# Altium footprint library PCB - CONNECTOR - SAMTEC SS5-80-3.50-L-D-K-TR.PCBLIB: 1 footprints
Each footprint in its own frame and in the unit in brackets; x right, y up, seen from the top. Pads: shape width x height; smd on the part's side, far side on the other; paste and mask are expansions set on the pad; w line width, h text height; cw(c..) or ccw(c..) is an arc to the next point about the centre after c.
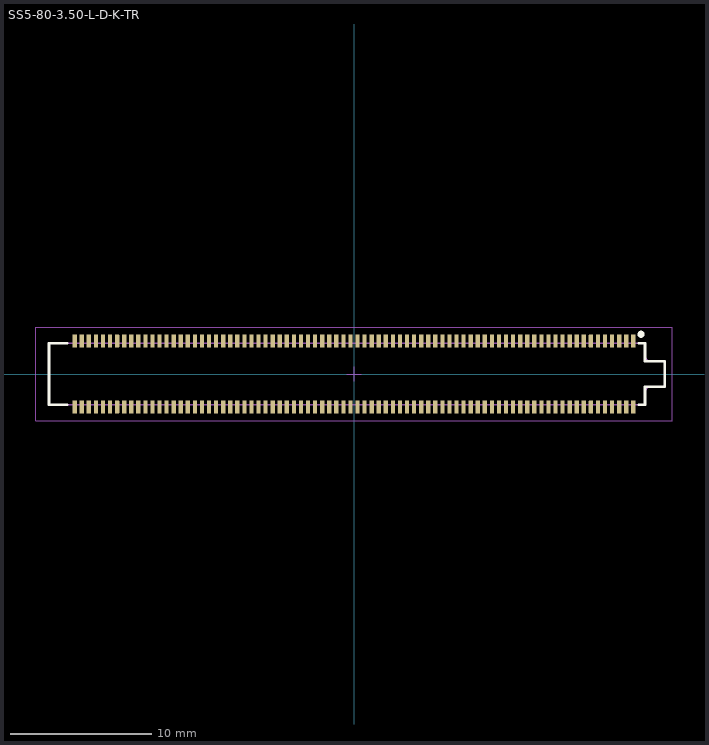
[diagram p0: the footprint, top view; thin cyan lines are the x and y axes]

## SS5-80-3.50-L-D-K-TR [mm]
height 3.5
pads (160):
  rrect20% 0.3x0.93 smd mask+0.05: 1(19.75,2.335) 2(19.75,-2.335) 3(19.25,2.335) 4(19.25,-2.335) 5(18.75,2.335) 6(18.75,-2.335) 7(18.25,2.335) 8(18.25,-2.335) 9(17.75,2.335) 10(17.75,-2.335) 11(17.25,2.335) 12(17.25,-2.335) 13(16.75,2.335) 14(16.75,-2.335) 15(16.25,2.335) 16(16.25,-2.335) 17(15.75,2.335) 18(15.75,-2.335) 19(15.25,2.335) 20(15.25,-2.335) 21(14.75,2.335) 22(14.75,-2.335) 23(14.25,2.335) 24(14.25,-2.335) 25(13.75,2.335) 26(13.75,-2.335) 27(13.25,2.335) 28(13.25,-2.335) 29(12.75,2.335) 30(12.75,-2.335) 31(12.25,2.335) 32(12.25,-2.335) 33(11.75,2.335) 34(11.75,-2.335) 35(11.25,2.335) 36(11.25,-2.335) 37(10.75,2.335) 38(10.75,-2.335) 39(10.25,2.335) 40(10.25,-2.335) 41(9.75,2.335) 42(9.75,-2.335) 43(9.25,2.335) 44(9.25,-2.335) 45(8.75,2.335) 46(8.75,-2.335) 47(8.25,2.335) 48(8.25,-2.335) 49(7.75,2.335) 50(7.75,-2.335) 51(7.25,2.335) 52(7.25,-2.335) 53(6.75,2.335) 54(6.75,-2.335) 55(6.25,2.335) 56(6.25,-2.335) 57(5.75,2.335) 58(5.75,-2.335) 59(5.25,2.335) 60(5.25,-2.335) 61(4.75,2.335) 62(4.75,-2.335) 63(4.25,2.335) 64(4.25,-2.335) 65(3.75,2.335) 66(3.75,-2.335) 67(3.25,2.335) 68(3.25,-2.335) 69(2.75,2.335) 70(2.75,-2.335) 71(2.25,2.335) 72(2.25,-2.335) 73(1.75,2.335) 74(1.75,-2.335) 75(1.25,2.335) 76(1.25,-2.335) 77(0.75,2.335) 78(0.75,-2.335) 79(0.25,2.335) 80(0.25,-2.335) 81(-0.25,2.335) 82(-0.25,-2.335) 83(-0.75,2.335) 84(-0.75,-2.335) 85(-1.25,2.335) 86(-1.25,-2.335) 87(-1.75,2.335) 88(-1.75,-2.335) 89(-2.25,2.335) 90(-2.25,-2.335) 91(-2.75,2.335) 92(-2.75,-2.335) 93(-3.25,2.335) 94(-3.25,-2.335) 95(-3.75,2.335) 96(-3.75,-2.335) 97(-4.25,2.335) 98(-4.25,-2.335) 99(-4.75,2.335) 100(-4.75,-2.335) 101(-5.25,2.335) 102(-5.25,-2.335) 103(-5.75,2.335) 104(-5.75,-2.335) 105(-6.25,2.335) 106(-6.25,-2.335) 107(-6.75,2.335) 108(-6.75,-2.335) 109(-7.25,2.335) 110(-7.25,-2.335) 111(-7.75,2.335) 112(-7.75,-2.335) 113(-8.25,2.335) 114(-8.25,-2.335) 115(-8.75,2.335) 116(-8.75,-2.335) 117(-9.25,2.335) 118(-9.25,-2.335) 119(-9.75,2.335) 120(-9.75,-2.335) 121(-10.25,2.335) 122(-10.25,-2.335) 123(-10.75,2.335) 124(-10.75,-2.335) 125(-11.25,2.335) 126(-11.25,-2.335) 127(-11.75,2.335) 128(-11.75,-2.335) 129(-12.25,2.335) 130(-12.25,-2.335) 131(-12.75,2.335) 132(-12.75,-2.335) 133(-13.25,2.335) 134(-13.25,-2.335) 135(-13.75,2.335) 136(-13.75,-2.335) 137(-14.25,2.335) 138(-14.25,-2.335) 139(-14.75,2.335) 140(-14.75,-2.335) 141(-15.25,2.335) 142(-15.25,-2.335) 143(-15.75,2.335) 144(-15.75,-2.335) 145(-16.25,2.335) 146(-16.25,-2.335) 147(-16.75,2.335) 148(-16.75,-2.335) 149(-17.25,2.335) 150(-17.25,-2.335) 151(-17.75,2.335) 152(-17.75,-2.335) 153(-18.25,2.335) 154(-18.25,-2.335) 155(-18.75,2.335) 156(-18.75,-2.335) 157(-19.25,2.335) 158(-19.25,-2.335) 159(-19.75,2.335) 160(-19.75,-2.335)
Top Overlay:
  circle w0.25: c20.3,2.81 r0.125
  lines w0.2: -20.3,-2.175 -21.571,-2.175 -21.571,2.175 -20.3,2.175 ; 20.15,-2.175 20.58,-2.175 20.58,-0.9 21.98,-0.9 21.98,0.9 20.58,0.9 20.58,2.175 20.15,2.175
M5 Assembly Top:
  lines w0.1: -21.56,-2.175 -21.56,2.175 20.58,2.175 20.58,1.3 ccw(c20.98,1.3) 20.98,0.9 21.83,0.9 cw(c21.83,0.75) 21.98,0.75 21.98,-0.75 cw(c21.83,-0.75) 21.83,-0.9 20.98,-0.9 ccw(c20.98,-1.3) 20.58,-1.3 20.58,-2.175 -21.56,-2.175
  text "160" at -21.105,-1.853 h0.6
  text "159" at -21.105,0.772 h0.6
  text "2" at 19.595,-1.878 h0.6
  text "1" at 19.745,0.847 h0.6
  text ".Designator" at -2.005,-0.503 h1.52
Mechanical 15:
  lines w0.05: -0.5,0 0.5,0 ; 0,-0.5 0,0.5 ; -22.5,-3.3 -22.5,3.3 22.5,3.3 22.5,-3.3 -22.5,-3.3
3D body "SS5-80-3.50-D-K-TR.stp": height 4.03, standoff 0.03, extent -21.56,-2.5 21.98,2.5